# EAGLE library part MOLEX_SL_21 (library molex-sl-connectors_jw)
Molex SL-Series PCB Header, 21-Pos, 0.1" (2.54mm) Centers
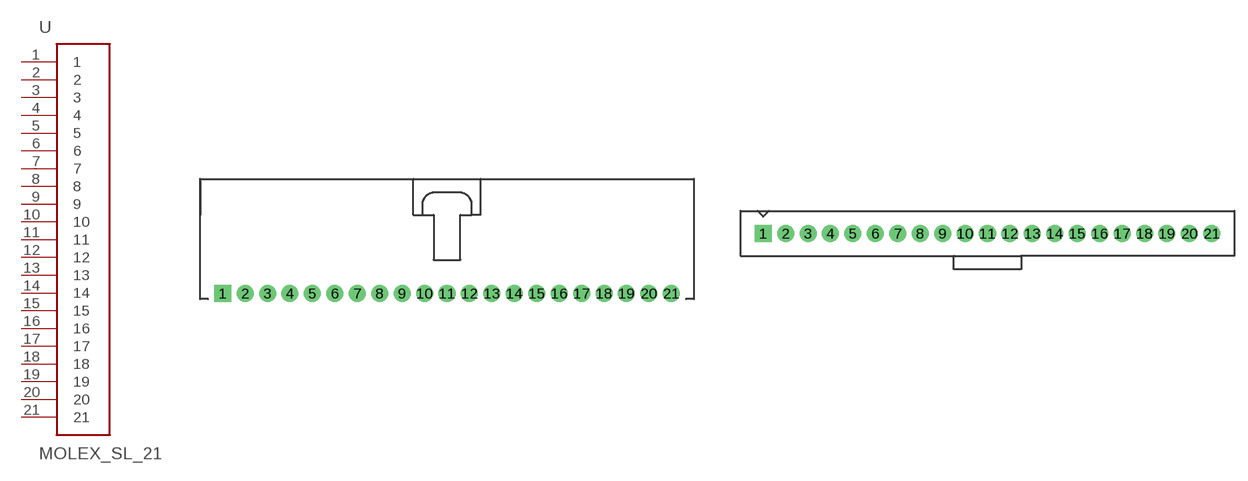
[diagram p15: symbol with the pads of SL_70553_21; footprints SL_70553_21, SL_70543_21]

Designator prefix -

## MOLEX_SL_21-70553  [SL_70553_21]
1  1
2  2
3  3
4  4
5  5
6  6
7  7
8  8
9  9
10  10
11  11
12  12
13  13
14  14
15  15
16  16
17  17
18  18
19  19
20  20
21  21

## MOLEX_SL_21-70543-74095  [SL_70543_21]
Pads as for SL_70553_21

## MOLEX_SL_21-70541-70545  [SL_70541_21]
Pads as for SL_70553_21

## MOLEX_SL_21-70551  [SL_70551_21]
Pads as for SL_70553_21

## MOLEX_SL_21-70555  [SL_70555_21]
Pads as for SL_70553_21

## MOLEX_SL_21-70634  [SL_70634_21]
Pads as for SL_70553_21

## MOLEX_SL_21-87898  [SL_87898_21]
Pads as for SL_70553_21

## Footprint SL_70553_21 (pad centres in mm)
Right-Angle Header w/ Latch (no pegs) 70553-0020 70553-0055 70553-0125 70553-0160
drill 1.1 pad 1.93 square: 1 -25.4,-5.08
drill 1.1 pad 1.93: 2 -22.86,-5.08; 3 -20.32,-5.08; 4 -17.78,-5.08; 5 -15.24,-5.08; 6 -12.7,-5.08; 7 -10.16,-5.08; 8 -7.62,-5.08; 9 -5.08,-5.08; 10 -2.54,-5.08; 11 0,-5.08; 12 2.54,-5.08; 13 5.08,-5.08; 14 7.62,-5.08; 15 10.16,-5.08; 16 12.7,-5.08; 17 15.24,-5.08; 18 17.78,-5.08; 19 20.32,-5.08; 20 22.86,-5.08; 21 25.4,-5.08

## Footprint SL_70543_21 (pad centres in mm)
Vertical Header w/ Latch & Optional Compliant Pins (no pegs) Normal Pins: 70543-0020 70543-0055 70543-0090 70543-0125 70543-0160 70543-0184 70543-0219 70543-0267 70543-0291 70543-0315 Compliant Pins 74095-0021 74095-0051 74095-0081 74095-1051 74095-1081
drill 1.1 pad 1.93 square: 1 -25.4,1.27
drill 1.1 pad 1.93: 2 -22.86,1.27; 3 -20.32,1.27; 4 -17.78,1.27; 5 -15.24,1.27; 6 -12.7,1.27; 7 -10.16,1.27; 8 -7.62,1.27; 9 -5.08,1.27; 10 -2.54,1.27; 11 0,1.27; 12 2.54,1.27; 13 5.08,1.27; 14 7.62,1.27; 15 10.16,1.27; 16 12.7,1.27; 17 15.24,1.27; 18 17.78,1.27; 19 20.32,1.27; 20 22.86,1.27; 21 25.4,1.27

## Footprint SL_70541_21 (pad centres in mm)
Vertical Header w/ Latch & Pegs With Split Pegs: 70541-0020 70541-0055 70541-0090 With Tri-Pegs: 70545-0020 70545-0055 70545-0090 70545-3020 70545-3070 70545-3120
drill 1.1 pad 1.93 square: 1 -25.4,1.27
drill 1.1 pad 1.93: 2 -22.86,1.27; 3 -20.32,1.27; 4 -17.78,1.27; 5 -15.24,1.27; 6 -12.7,1.27; 7 -10.16,1.27; 8 -7.62,1.27; 9 -5.08,1.27; 10 -2.54,1.27; 11 0,1.27; 12 2.54,1.27; 13 5.08,1.27; 14 7.62,1.27; 15 10.16,1.27; 16 12.7,1.27; 17 15.24,1.27; 18 17.78,1.27; 19 20.32,1.27; 20 22.86,1.27; 21 25.4,1.27
hole 3.404 at -29.464,0.508
hole 3.404 at 29.464,0.508

## Footprint SL_70551_21 (pad centres in mm)
Right-Angle Header w/ Latch & Split Pegs 70551-0020 70551-0055 70551-0090
drill 1.1 pad 1.93 square: 1 -25.4,-5.08
drill 1.1 pad 1.93: 2 -22.86,-5.08; 3 -20.32,-5.08; 4 -17.78,-5.08; 5 -15.24,-5.08; 6 -12.7,-5.08; 7 -10.16,-5.08; 8 -7.62,-5.08; 9 -5.08,-5.08; 10 -2.54,-5.08; 11 0,-5.08; 12 2.54,-5.08; 13 5.08,-5.08; 14 7.62,-5.08; 15 10.16,-5.08; 16 12.7,-5.08; 17 15.24,-5.08; 18 17.78,-5.08; 19 20.32,-5.08; 20 22.86,-5.08; 21 25.4,-5.08
hole 3.404 at -26.67,3.556
hole 3.404 at 26.67,3.556

## Footprint SL_70555_21 (pad centres in mm)
Right-Angle Header w/ Latch & Tri-Pegs 70555-0020 70555-0055 70555-0090 70555-5020
drill 1.1 pad 1.93 square: 1 -25.4,-5.08
drill 1.1 pad 1.93: 2 -22.86,-5.08; 3 -20.32,-5.08; 4 -17.78,-5.08; 5 -15.24,-5.08; 6 -12.7,-5.08; 7 -10.16,-5.08; 8 -7.62,-5.08; 9 -5.08,-5.08; 10 -2.54,-5.08; 11 0,-5.08; 12 2.54,-5.08; 13 5.08,-5.08; 14 7.62,-5.08; 15 10.16,-5.08; 16 12.7,-5.08; 17 15.24,-5.08; 18 17.78,-5.08; 19 20.32,-5.08; 20 22.86,-5.08; 21 25.4,-5.08
hole 3.404 at -26.797,3.556
hole 3.404 at 26.797,3.556

## Footprint SL_70634_21 (pad centres in mm)
SMD Right-Angle Header w/ Latch & PCB Pegs 70634-0020 70634-0055 70634-0090 70634-0125 70634-0160 70634-0195 70634-0221
smd 1.651 x 5.334: 1 -25.4,-7.62; 2 -22.86,-7.62; 3 -20.32,-7.62; 4 -17.78,-7.62; 5 -15.24,-7.62; 6 -12.7,-7.62; 7 -10.16,-7.62; 8 -7.62,-7.62; 9 -5.08,-7.62; 10 -2.54,-7.62; 11 0,-7.62; 12 2.54,-7.62; 13 5.08,-7.62; 14 7.62,-7.62; 15 10.16,-7.62; 16 12.7,-7.62; 17 15.24,-7.62; 18 17.78,-7.62; 19 20.32,-7.62; 20 22.86,-7.62; 21 25.4,-7.62
hole 3.404 at -26.822,3.048
hole 3.404 at 26.797,3.099

## Footprint SL_87898_21 (pad centres in mm)
SMD Vertical Header (no latch or pegs) Package also includes Pick-N-Place Cap Tube packaging w/o Pick-N-Place Cap: 87898-2121 87898-2122 87898-2124 87898-2125 87898-2126 Tube packaging w/ Pick-N-Place Cap: 87898-2131 87898-2132 87898-2134 87898-2135 87898-2136 Tape & Reel packaging w/ Pick-N-Place Cap: 87898-2151 87898-2152 87898-2154 87898-2155 87898-2156
smd 1.27 x 2.946: 1 -25.4,1.803; 2 -22.86,-1.803; 3 -20.32,1.803; 4 -17.78,-1.803; 5 -15.24,1.803; 6 -12.7,-1.803; 7 -10.16,1.803; 8 -7.62,-1.803; 9 -5.08,1.803; 10 -2.54,-1.803; 11 0,1.803; 12 2.54,-1.803; 13 5.08,1.803; 14 7.62,-1.803; 15 10.16,1.803; 16 12.7,-1.803; 17 15.24,1.803; 18 17.78,-1.803; 19 20.32,1.803; 20 22.86,-1.803; 21 25.4,1.803